# Altium schematic symbol library SI4435DY.SchLib: 1 symbol
Pins are listed as number, name and electrical type; pins without a type are passive.

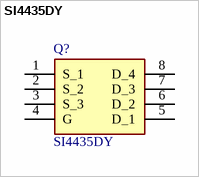
[diagram p0: symbol SI4435DY]

## SI4435DY
designator Q?
MOSFET P-Ch 30V 8.8A PowerTrench SOIC8; Manufacturer_Name: onsemi; Geometry.Height: 1.75mm; TME Electronic Components Part Number: *; TME Electronic Components Price/Stock: *; Manufacturer_Part_Number: SI4435DY; Datasheet Link: https://www.onsemi.com/pdf/datasheet/si4435dy-d.pdf
footprint SOIC127P600X175-8N
pins: 1 S_1, 2 S_2, 3 S_3, 4 G, 5 D_1, 6 D_2, 7 D_3, 8 D_4